# EAGLE library part TLC5916 (library Schuyler)
8 output constant current driver. VERIFIED=false. Manufacturer: TI Part Number: TLC5916 Distributor: Digikey Park Number: 296-22710-1-ND
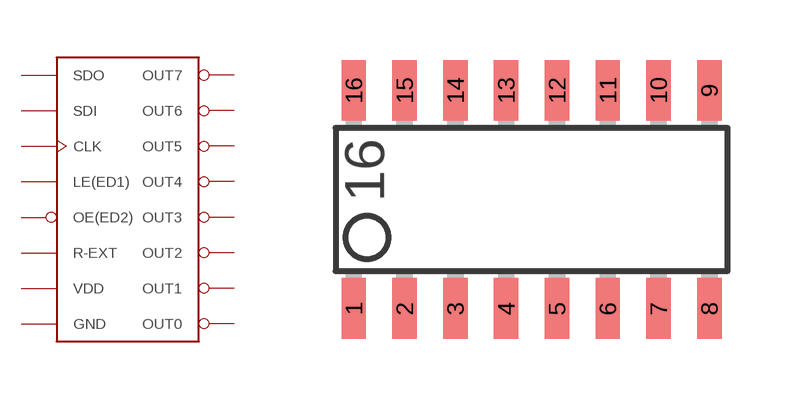
[diagram p1: symbol with the pads of SO-16; footprint SO-16]

Designator prefix -

## TLC5916 (MANPARTNUMBER: TLC5916IDR; MANUFACTURER: Texas Instruments; PARTNUMBER: 296-22710-1-ND; SUPPLIER: DIGIKEY)  [SO-16]
1  GND
2  SDI  in
3  CLK
4  LE(ED1)  in
5  OUT0  in
6  OUT1  in
7  OUT2  in
8  OUT3  in
9  OUT4  in
10  OUT5  in
11  OUT6  in
12  OUT7  in
13  OE(ED2)  in
14  SDO  out
15  R-EXT
16  VDD  pwr

## Footprint SO-16 (pad centres in mm)
Small Outline Integrated Circuit
smd 0.61 x 1.524: 1 -4.445,-2.794; 2 -3.175,-2.794; 3 -1.905,-2.794; 4 -0.635,-2.794; 5 0.635,-2.794; 6 1.905,-2.794; 7 3.175,-2.794; 8 4.445,-2.794; 9 4.445,2.667; 10 3.175,2.667; 11 1.905,2.667; 12 0.635,2.667; 13 -0.635,2.667; 14 -1.905,2.667; 15 -3.175,2.667; 16 -4.445,2.667